# Altium footprint library Booster_Board.PcbLib: 55 footprints (part 4 of 4)
Each footprint in its own frame and in the unit in brackets; x right, y up, seen from the top. Pads: shape width x height; smd on the part's side, far side on the other; paste and mask are expansions set on the pad; w line width, h text height; cw(c..) or ccw(c..) is an arc to the next point about the centre after c.
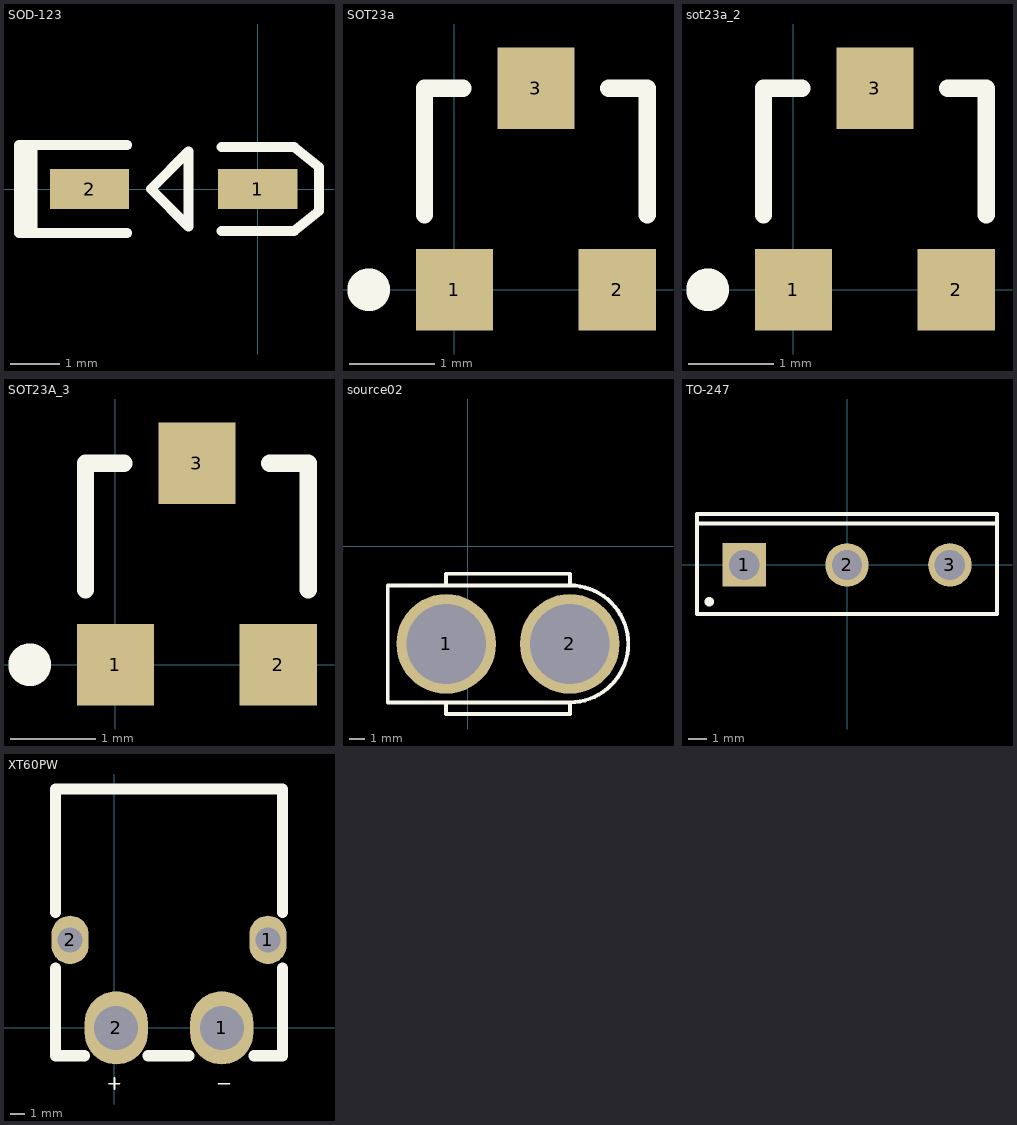
[diagram p3: the footprints below, top view; thin cyan lines are the x and y axes]

## SOD-123 [mm]
pads (2):
  rect 1.6x0.8 smd: 1(0,0) 2(-3.4,0)
Top Overlay:
  lines w0.2: -4.67,-0.889 -4.67,0.801 ; -4.55,-0.85 -4.55,0.85 ; -2.638,-0.889 -4.826,-0.889 -4.826,0.889 -2.638,0.889 ; -0.733,-0.845 0.737,-0.845 1.237,-0.445 1.237,0.445 0.737,0.845 -0.733,0.845 ; -2.159,0 -1.397,-0.762 -1.397,0.762 -2.159,0

## SOT23a [mm] "SOT-23; 3 Leads; Body 3.0 x 2.5 mm, inc. leads (LxW max)"
height 1.2
pads (3):
  rect 0.9x0.95 smd: 1(0,0) 2(1.9,0) 3(0.95,2.35)
Top Overlay:
  circle w0.25: c-1,0 r0.125
  lines w0.2: -0.35,0.875 -0.35,2.35 0.1,2.35 ; 1.8,2.35 2.25,2.35 2.25,0.875

## sot23a_2 [mm]
pads (3):
  rect 0.9x0.95 smd: 1(0,0) 2(1.9,0) 3(0.95,2.35)
Top Overlay:
  circle w0.25: c-1,0 r0.125
  lines w0.2: -0.35,0.875 -0.35,2.35 0.1,2.35 ; 1.8,2.35 2.25,2.35 2.25,0.875

## SOT23A_3 [mm]
pads (3):
  rect 0.9x0.95 smd: 1(0,0) 2(1.9,0) 3(0.95,2.35)
Top Overlay:
  circle w0.25: c-1,0 r0.125
  lines w0.2: -0.35,0.875 -0.35,2.35 0.1,2.35 ; 1.8,2.35 2.25,2.35 2.25,0.875

## source02 [mm]
pads (2):
  round 6.5 hole 5.2: 1(-1.397,-6.35) 2(6.663,-6.35)
Top Overlay:
  lines w0.254: -1.397,-10.16 -1.397,-10.922 6.663,-10.922 6.663,-10.16 ; -1.397,-2.54 -1.397,-1.778 6.663,-1.778 6.663,-2.54 ; 6.663,-10.16 ccw(c6.663,-6.35) 6.663,-2.54 ; 6.663,-10.16 -5.207,-10.16 -5.207,-2.54 6.663,-2.54

## TO-247 [mm] "SIP with Mounting Hole; 3 Leads; Body 20 x 15.6 x 5 mm (typ); Pitch 5.45 mm"
height 24.6
pads (3):
  rect 2.3x2.3 hole 1.6: 1(-5.45,0)
  round 2.3 hole 1.6: 2(0,0) 3(5.45,0)
Top Overlay:
  circle w0.25: c-7.3,-1.95 r0.125
  lines w0.2: -7.95,2.2 7.95,2.2 ; -7.95,-2.6 -7.95,2.7 7.95,2.7 7.95,-2.6 -7.95,-2.6
Mechanical 13:
  lines w0.1: -7.95,-2.6 -7.95,2.7 7.95,2.7 7.95,-2.6 -7.95,-2.6
Mechanical 15:
  lines w0.1: -0.5,0 0.5,0 ; 0,-0.5 0,0.5
3D body: height 24.6, standoff 3.7, extent -7.949,-2.599 7.949,2.699

## XT60PW [mm]
pads (4):
  oval 4.318x5 hole 3: 1(7.327,0) 2(0.127,0)
  oval 2.54x3.302 hole 1.7: 1(10.477,6) 2(-3.023,6)
Top Overlay:
  lines w0.127: -0.381,-3.81 0.361,-3.81 ; 0,-4.171 0,-3.429 ; 7.112,-3.81 7.854,-3.81
  lines w0.762: -4.023,4.064 -4.023,-1.905 -2.032,-1.905 ; -4.023,7.874 -4.023,16.295 11.477,16.295 11.477,7.874 ; 2.286,-1.905 5.08,-1.905 ; 9.525,-1.905 11.477,-1.905 11.477,4.064
3D body "power connector.STEP": height 8.4, standoff -2, extent -4.042,-1.505 11.458,16.695